# EAGLE library part PCA9557 (library packages(ti))
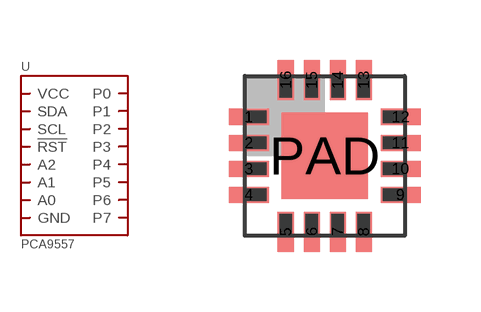
[diagram p18: symbol with the pads of RGV.16; footprint RGV.16]

Designator prefix -

## PCA9557.RGV  [RGV.16]
1  A0
2  A1
3  A2
4  P0
5  P1
6  GND
7  P2
8  P3
9  P4
10  P5
11  P6
12  P7
13  !RST
14  VCC
15  SCL
16  SDA
PAD  GND

## Footprint RGV.16 (pad centres in mm)
smd 1 x 0.4: 1 -1.9,0.975; 2 -1.9,0.325; 3 -1.9,-0.325; 4 -1.9,-0.975; 9 1.9,-0.975; 10 1.9,-0.325; 11 1.9,0.325; 12 1.9,0.975
smd 0.4 x 1: 5 -0.975,-1.9; 6 -0.325,-1.9; 7 0.325,-1.9; 8 0.975,-1.9; 13 0.975,1.9; 14 0.325,1.9; 15 -0.325,1.9; 16 -0.975,1.9
smd 2.16 x 2.16: PAD 0,0